# EAGLE library part 693063010911 (library WR-CRD)
WR-CRD SD Card Connectors Characteristics Available in two form factors: SD and MicroSD Available in three entry types: Push-Pull, Hinge and Push-Push SD 4.0 available in SD form factor for higher transfer speed Applications Single-board computers Surveillance systems Industrial data logging Consumer Electronics Drones <https://www.we-online.com/components/media/o32845v209%20Family_ConCRD_693071010811.jpg> Details see: www.we-online.com/components/products/WR-CRD_CARD_CONNECTORS_SD2 <www.we-online.com/catalog/WR-CRD_CARD_CONNECTORS_SD2/?utm_source=eagle_model&utm_medium=description_link&utm_campaign=eisos_eagle> Updated by Ella 2024-11-14 2024 (C) Würth Elektronik
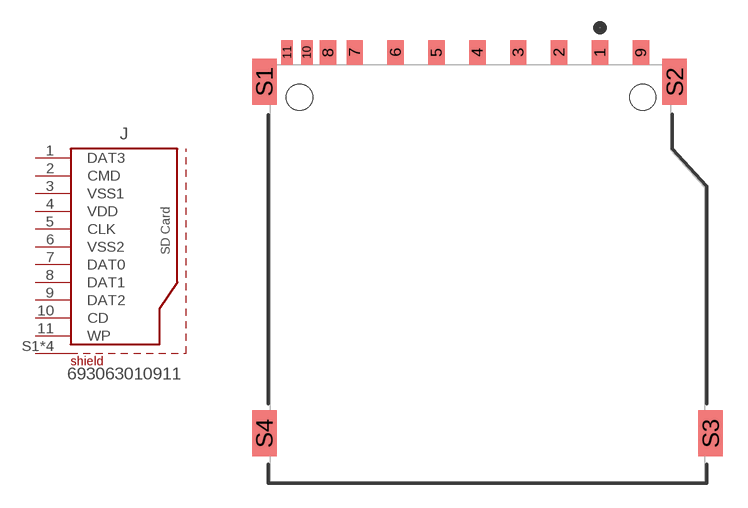
[diagram p6: symbol with the pads of 693063010911; footprint 693063010911]

Designator prefix J

## 693063010911 (DATASHEET-URL: https://www.we-online.com/redexpert/spec/693063010911?ae; DURABILITY: 10000 Mating cycles; GERDER: Socket; MOUNT: SMT; PART-NUMBER: 693063010911; PINS: 9pcs; SIZE: SD; TYPE: Push & Pull; VALUE: 693063010911)  [693063010911]
1  DAT3  pas
2  CMD  pas
3  VSS1  pas
4  VDD  pas
5  CLK  pas
6  VSS2  pas
7  DAT0  pas
8  DAT1  pas
9  DAT2  pas
10  CD  pas
11  WP  pas
S1  SHIELD  pas
S2  SHIELD  pas
S3  SHIELD  pas
S4  SHIELD  pas

## Footprint 693063010911 (pad centres in mm)
WR-CRD SD Card Connector Push & Pull with Card Detection 9 pins
smd 1 x 1.5: 1 6.88,13.5; 2 4.38,13.5; 3 1.88,13.5; 4 -0.62,13.5; 5 -3.12,13.5; 6 -5.62,13.5; 7 -8.12,13.5; 8 -9.75,13.5; 9 9.38,13.5
smd 0.7 x 1.5: 10 -11.05,13.5; 11 -12.25,13.5
smd 1.5 x 2.8: S1 -13.65,11.7; S2 11.45,11.7; S3 13.65,-9.8; S4 -13.65,-9.8
hole 1.6 at -11.5,10.75
hole 1.6 at 9.5,10.75